# EAGLE library part 10K (library ZOMGTHEREMINBBQLOL)
Toko Type 10K variable inductors
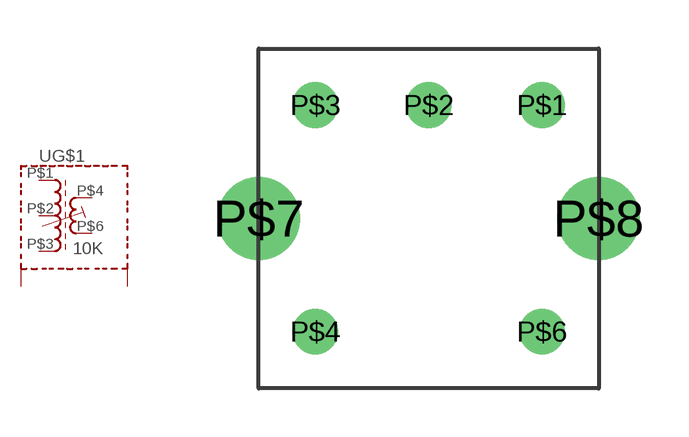
[diagram p2: symbol with the pads of 10K; footprint 10K]

Designator prefix -; gates G$1=10K G$2=10KSHEILD

## 10K  [10K]
P$1  G$1:A1  pas
P$2  G$1:Z  pas
P$3  G$1:E1  pas
P$4  G$1:A2  pas
P$6  G$1:E2  pas
P$7  G$2:S1  pas
P$8  G$2:S2  pas

## Footprint 10K (pad centres in mm)
drill 0.9 round: P$1 3.5,3.5; P$2 0,3.5; P$3 -3.5,3.5; P$4 -3.5,-3.5; P$6 3.5,-3.5
drill 1.7 round: P$7 -5.25,0; P$8 5.25,0